# Altium footprint library Light Board.PcbLib: 4 footprints
Each footprint in its own frame and in the unit in brackets; x right, y up, seen from the top. Pads: shape width x height; smd on the part's side, far side on the other; paste and mask are expansions set on the pad; w line width, h text height; cw(c..) or ccw(c..) is an arc to the next point about the centre after c.
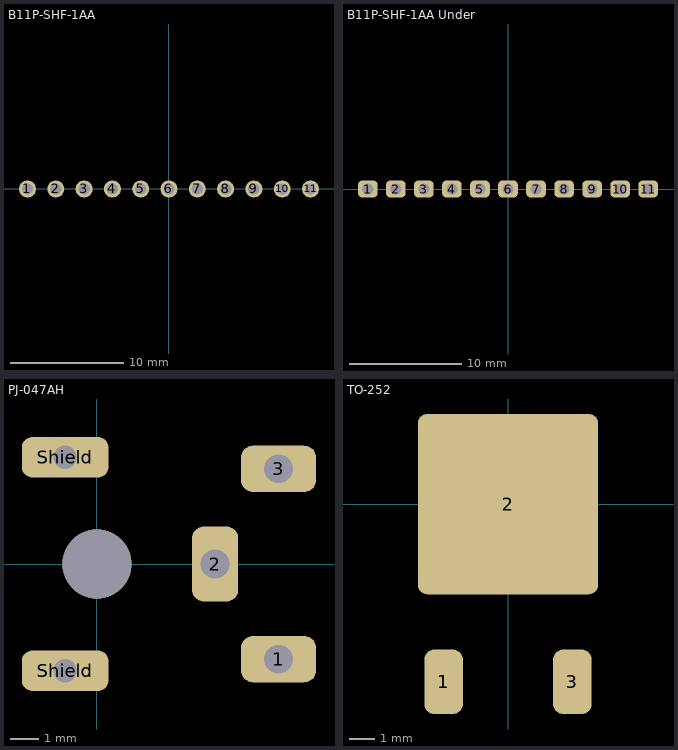
[diagram p0: the footprints below, top view; thin cyan lines are the x and y axes]

## B11P-SHF-1AA [mm]
pads (11):
  round 1.5 hole 1: 1(-12.5,0) 2(-10,0) 3(-7.5,0) 4(-5,0) 5(-2.5,0) 6(0,0) 7(2.5,0) 8(5,0) 9(7.5,0) 10(10,0) 11(12.5,0)
3D body "B11P-SHF-1AA.STEP": height 9.2, standoff -3.4, extent -13.75,-2.05 13.75,3.55

## B11P-SHF-1AA Under [mm]
pads (11):
  rrect50% 1.75x1.5 hole 1 square: 1(-12.5,0) 2(-10,0) 3(-7.5,0) 4(-5,0) 5(-2.5,0) 6(0,0) 7(2.5,0) 8(5,0) 9(7.5,0) 10(10,0) 11(12.5,0)
3D body "B11P-SHF-1AA.STEP": height 5.3, standoff -7.3, extent -13.75,-2.05 13.75,3.55

## PJ-047AH [mm]
pads (6):
  rrect50% 2.6x1.6 hole 1 square: 1(6.3,-3.3) 3(6.3,3.3)
  rrect50% 1.6x2.6 hole 1 square: 2(4.1,0)
  rrect50% 3x1.4 hole 0.8 square: Shield(-1.1,-3.7) Shield(-1.1,3.7)
  round 2.4 hole 2.4 paste+0 mask+0: ""(0,0)
3D body "CUI_PJ-047AH.step": height 9.8, standoff -2.7, extent -4,-3.85 7.75,3.85

## TO-252 [mm]
pads (3):
  rrect50% 1.5x2.5 smd: 1(-2.5,-6.9) 3(2.5,-6.9)
  rrect10% 7x7 smd: 2(0,0)
3D body "DPAK_TO-252AA.step": height 2.87, standoff 0.47, extent -3.367,-7.098 3.367,3.002